# Altium schematic symbol library 2.54mm_angle_recipient.SchLib: 1 symbol
Pins are listed as number, name and electrical type; pins without a type are passive.

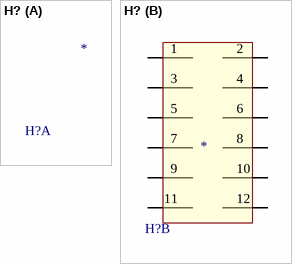
[diagram p0: symbol H?]

## H?
designator H?
Value: H?
part B pins: 1, 2, 3, 4, 5, 6, 7, 8, 9, 10, 11, 12